# Altium schematic symbol library THERMISTOR.SchLib: 1 symbol
Pins are listed as number, name and electrical type; pins without a type are passive.

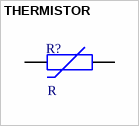
[diagram p0: symbol THERMISTOR]

## THERMISTOR
designator R?  Resistance: R
=Description; Tolerance: T; ComponentLink1Description: Datasheet
pins: 1, 2